# Altium schematic symbol library TLE5012B E1000.SchLib: 1 symbol
Pins are listed as number, name and electrical type; pins without a type are passive.

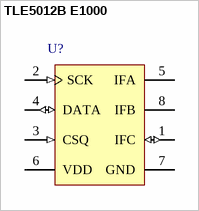
[diagram p0: symbol TLE5012B E1000]

## TLE5012B E1000
designator U?
GMR-Based Angle Sensor, PG-DSO-8-16, Reel, Green; Manufacturer: Infineon; PartNumber: TLE5012B E1000; Green: TRUE; Interface: SPI, IIF; DatasheetVersion: Rev. 1.1; PackageVersion: Mar-07; PackageReference: PG-DSO-8-16; PackageDescription: 8-Pin Plastic (Green) Dual Small Outline Package, 4.9 x 3.9 mm Body, 1.27 mm Pitch; Supplier 1: Mouser; Supplier Part Number 1: 726-TLE5012BE1000; Halogen-free: available; Packing: Reel; Mounting Technology: Surface Mount; ComponentLink1Description: Manufacturer URL; ComponentLink1URL: http://www.infineon.com/; ComponentLink2Description: Datasheet; ComponentLink2URL: http://www.infineon.com/dgdl/TLE5012B_FDS_Rev1+1.pdf?folderId=db3a30431ce5fb52011d3dd6e8012582&fileId=db3a304334fac4c601350f31c43c433f; ComponentLink3Description: Package Specification; ComponentLink3URL: http://www.infineon.com/dgdl/TLE7259-2GE_DS_rev12.pdf?folderId=db3a3043163797a6011666d32a0c0de1&fileId=db3a3043163797a6011666d4dbb80de2&location=en.Products.Automotive_ICs.Automotive_Transceivers.LIN_Transceivers.DATASHEET.TLE7259-2GE_DS_rev12.pdf
footprint INF-PG-DSO-8-16_N (SOP, 8-Leads, Body 4.9x3.9mm, Pitch 1.27mm, IPC Medium Density)
footprint INF-PG-DSO-8-16_L (SOP, 8-Leads, Body 4.9x3.9mm, Pitch 1.27mm, IPC High Density)
footprint INF-PG-DSO-8-16_M (SOP, 8-Leads, Body 4.9x3.9mm, Pitch 1.27mm, IPC Low Density)
pins: 1 IFC (io) "Interface C: External Clock / IIF Index / Hall Switch  Signal 3", 2 SCK (in) "SSC Clock", 3 CSQ (in) "SSC Chip Select", 4 DATA (io) "SSC Data", 5 IFA (oc) "Interface A:  IIF Phase A / Hall Switch Signal 1 /  PWM / SPC output", 6 VDD (power) "Supply Voltage", 7 GND (power) "Ground", 8 IFB (oc) "Interface B: IIF Phase B / Hall Switch Signal 2"